# Altium footprint library samtec.PcbLib: 2 footprints
Each footprint in its own frame and in the unit in brackets; x right, y up, seen from the top. Pads: shape width x height; smd on the part's side, far side on the other; paste and mask are expansions set on the pad; w line width, h text height; cw(c..) or ccw(c..) is an arc to the next point about the centre after c.
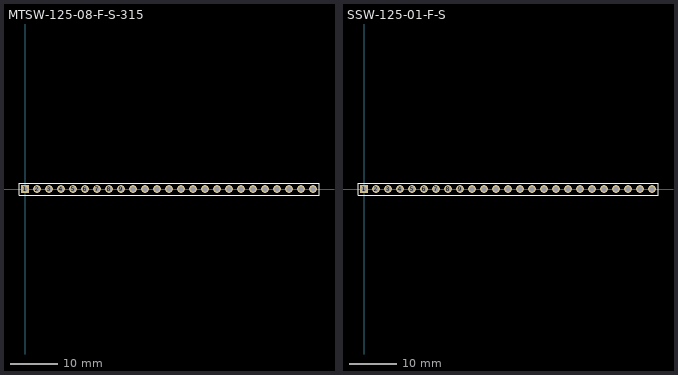
[diagram p0: the footprints below, top view; thin cyan lines are the x and y axes]

## MTSW-125-08-F-S-315 [mil]
pads (25):
  rect 65x65 hole 40: 1(0,0)
  round 65 hole 40: 2(100,0) 3(200,0) 4(300,0) 5(400,0) 6(500,0) 7(600,0) 8(700,0) 9(800,0) 10(900,0) 11(1000,0) 12(1100,0) 13(1200,0) 14(1300,0) 15(1400,0) 16(1500,0) 17(1600,0) 18(1700,0) 19(1800,0) 20(1900,0) 21(2000,0) 22(2100,0) 23(2200,0) 24(2300,0) 25(2400,0)
Top Overlay:
  lines w7.87: -50,-50 2450,-50 2450,50 25,50 -50,50 -50,-50
3D body "Samtec-MTSW-125-08-F-S-315.STEP": height 417, standoff -113, extent -50,-50 2450,50

## SSW-125-01-F-S [mil]
pads (25):
  rect 65x65 hole 40: 1(0,0)
  round 65 hole 40: 2(100,0) 3(200,0) 4(300,0) 5(400,0) 6(500,0) 7(600,0) 8(700,0) 9(800,0) 10(900,0) 11(1000,0) 12(1100,0) 13(1200,0) 14(1300,0) 15(1400,0) 16(1500,0) 17(1600,0) 18(1700,0) 19(1800,0) 20(1900,0) 21(2000,0) 22(2100,0) 23(2200,0) 24(2300,0) 25(2400,0)
Top Overlay:
  lines w7.87: -50,-50 -50,50 25,50 2450,50 2450,-50 -50,-50
3D body "Samtec-SSW-125-01-F-S.STEP": height 337, standoff -102, extent -60,-47.5 2460,47.5